# EAGLE library part XA-6PIN (library NFR23_v1.1)
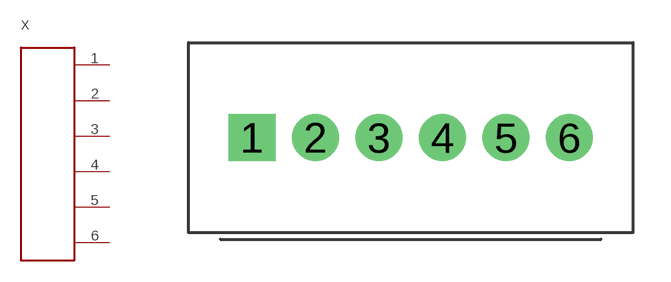
[diagram p3: symbol with the pads of XA-6PIN; footprint XA-6PIN]

Designator prefix X

## XA-6PIN  [XA-6PIN]
1  1  pas
2  2  pas
3  3  pas
4  4  pas
5  5  pas
6  6  pas

## Footprint XA-6PIN (pad centres in mm)
drill 1.016 pad 1.88 square: 1 0,0
drill 1.016 pad 1.88: 2 2.54,0; 3 5.08,0; 4 7.62,0; 5 10.16,0; 6 12.7,0